# Altium schematic symbol library Connectors.SchLib: 17 symbols
Pins are listed as number, name and electrical type; pins without a type are passive.

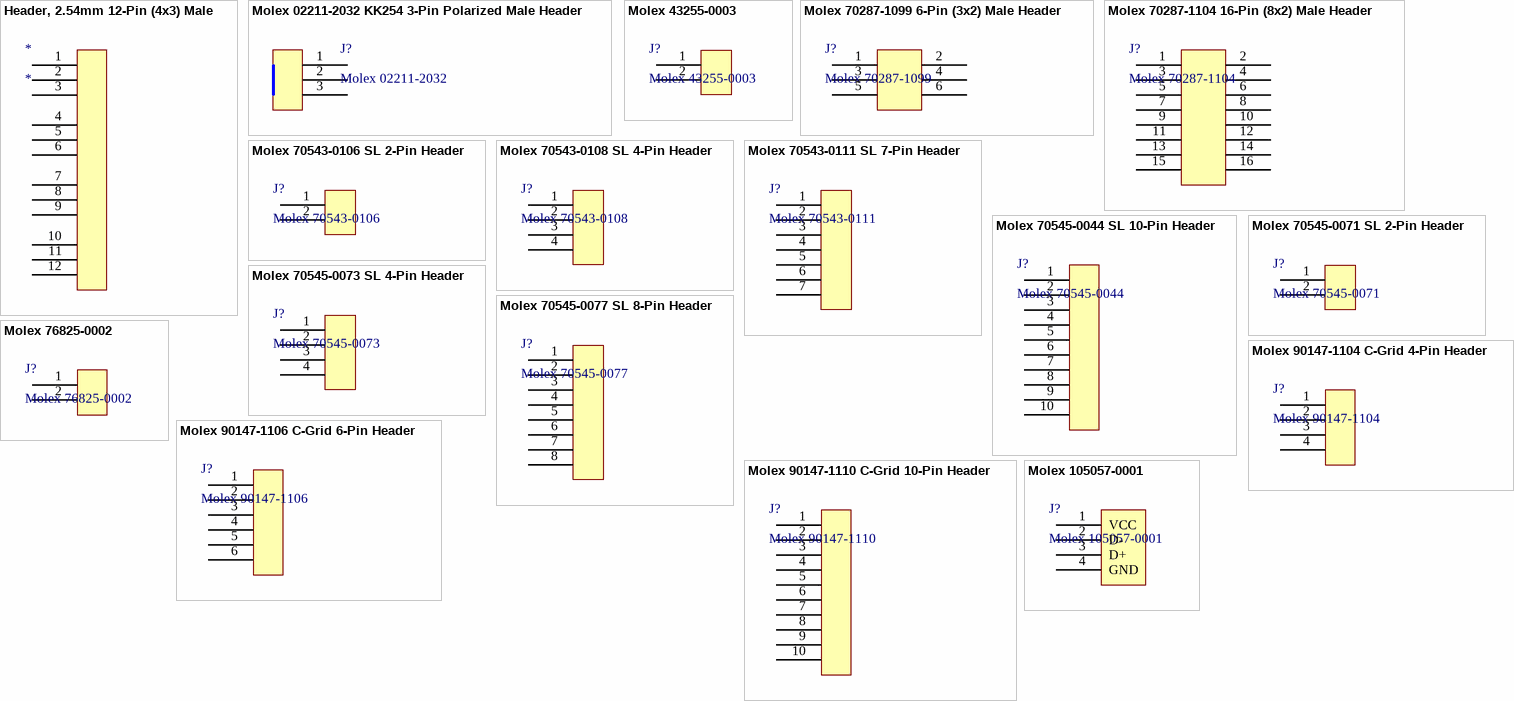
[diagram p0: symbols Header, 2.54mm 12-Pin (4x3) Male to Molex 105057-0001]

## Header, 2.54mm 12-Pin (4x3) Male
designator *
12 Positions Header, Unshrouded Connector 0.100" (2.54mm) Through Hole
footprint Header 12-Pin 2.54mm 4x3 (.025 SQ Post Terminal Strip Assembly, 3x4 Pins, Vertical, 2.54mm Pitch, Male)
pins: 1, 2, 3, 4, 5, 6, 7, 8, 9, 10, 11, 12

## Molex 02211-2032 KK254 3-Pin Polarized Male Header
designator J?, comment Molex 02211-2032
KK® 254 Solid Header, Vertical, with Friction Lock, 3 Circuits, Gold (Au) Plating; Contact Resistance: 10mR; Number of Positions: 3; Current Rating: 4A; Voltage Rating: 250V; Gender: Male; Insulation Resistance: 50GR; Pitch: 2.54mm; Approvals: UL; Glow Wire Compliant: Non-compliant; Supplier 1: Digi-Key; Manufacturer: Molex; Manufacturer Part Number: 22-11-2032; Stock 1: 54741; Pricing 1: 1 = 0.56000, 10 = 0.52700, 100 = 0.40370, 500 = 0.35100, 1000 = 0.28958, 5000 = 0.25448, 10000 = 0.23693 (USD); RoHS 1: Yes; Mount: Through Hole; Contact Plating: Gold; Contact Material: Brass; Color: White; Housing Color: Black; Housing Material: Nylon; Min Operating Temperature: 0°C; Max Operating Temperature: 75°C; Number of Rows: 1; Packaging: Bulk; Termination: Through Hole; Number of Contacts: 3; Orientation: Straight; Package Quantity: 2000; Max Current Rating: 4A; Number of Circuits: 3; Voltage Rating (DC): 250V; Length: 95mm; Height: 14.68mm; Depth: 9.02mm; Radiation Hardening: No; REACH SVHC: Unknown; Halogen Free: Low Halogen; Lead Free: Lead Free; Flammability Rating: UL94 V-0; ComponentLink1URL: https://datasheet.ciiva.com/5159/0022112032-pcb-headers-158580-5159152.pdf?src-supplier=Mouser; ComponentLink1Description: Datasheet 1 (Mouser); ComponentLink2URL: https://datasheet.ciiva.com/30220/211850022112032-pcb-headers-30220272.pdf?src-supplier=Onlinecomponents.com; ComponentLink2Description: Datasheet 2 (Onlinecomponents.com); ComponentLink3URL: https://datasheet.ciiva.com/16656/0022112032-pcb-headers-16656147.pdf?src-supplier=Avnet+Europe; ComponentLink3Description: Datasheet 3 (Avnet Europe); ComponentLink4URL: https://datasheet.ciiva.com/19462/1966000-19462324.pdf?src-supplier=Jameco; ComponentLink4Description: Datasheet 4 (Jameco); ComponentLink5URL: https://datasheet.ciiva.com/19462/233592-19462460.pdf?src-supplier=Jameco; ComponentLink5Description: Datasheet 5 (Jameco); ComponentLink6URL: https://datasheet.ciiva.com/11746/0900766b80d8f3a3-11746606.pdf?src-supplier=RSComponents; ComponentLink6Description: Datasheet 6 (RSComponents); ComponentLink7URL: https://datasheet.ciiva.com/10090/0022112032-pcb-headers-10090022.pdf?src-supplier=Avnet; ComponentLink7Description: Datasheet 7 (Avnet); ComponentLink8URL: https://datasheet.ciiva.com/28632/1928036-28632682.pdf?src-supplier=Element14; ComponentLink8Description: Datasheet 8 (Element14); Supplier Part Number 1: WM2701-ND
footprint Molex 02211-2032 (KK254 3-Pin Header with Friction Lock)
pins: 1, 2, 3

## Molex 43255-0003
designator J?
Pin & Socket Connectors 0.084 MLX Hdr 2CKT WITH PEG; Current Rating: 20A; Voltage Rating: 600V; Number of Positions: 2; Pitch: 6.35mm; Glow Wire Compliant: Non-compliant; Supplier 1: Digi-Key; Manufacturer: Molex; Manufacturer Part Number: 43255-0003; Stock 1: 7344; Pricing 1: 1 = 0.46000, 10 = 0.43200, 100 = 0.33140, 500 = 0.28820, 1836 = 0.23056, 5508 = 0.20895, 11016 = 0.19454 (USD); RoHS 1: Yes; Mount: Through Hole; Contact Material: Bronze; Contact Plating: Tin; Housing Material: Polyester; Min Operating Temperature: -55°C; Max Operating Temperature: 105°C; Package Quantity: 1836; Number of Rows: 1; Contact Gender: Male; Packaging: Tray; Termination: Through Hole; Number of Contacts: 2; Orientation: Straight; Number of Circuits: 2; REACH SVHC: No SVHC; Flammability Rating: UL94 V-0; ComponentLink1URL: https://datasheet.ciiva.com/30153/7750432550003-pcb-headers-30153428.pdf?src-supplier=Onlinecomponents.com; ComponentLink1Description: Datasheet 1 (Onlinecomponents.com); ComponentLink2URL: https://datasheet.ciiva.com/12919/0432550003-pcb-headers-168374-12919417.pdf?src-supplier=Mouser; ComponentLink2Description: Datasheet 2 (Mouser); Supplier Part Number 1: WM23264-ND
footprint Molex 43255-0003
pins: 1, 2

## Molex 70287-1099 6-Pin (3x2) Male Header
designator J?, comment Molex 70287-1099
CONN HEADER BKWY DL GOLD 6POS; Manufacturer Part Number: 0702871099; Number of Positions: 6; Max Voltage Rating (DC): 250V; Connector Type: Male Pin; Pitch: 2.54mm; Row Spacing: 0.1inch; Supplier 1: Digi-Key; Manufacturer: Molex; Stock 1: 0; RoHS 1: Yes; Mount: Through Hole; Contact Plating: Gold; Contact Material: Brass; Housing Material: Thermoplastic; Color: Black; Housing Color: Black; Min Operating Temperature: -40°C; Max Operating Temperature: 120°C; Orientation: Straight; Packaging: Bulk; Number of Rows: 2; Termination: Solder; Number of Contacts: 6; Length: 7.62mm; Contact Mating Length: 0.24inch; Depth: 5.08mm; Radiation Hardening: No; ComponentLink1URL: https://datasheet.ciiva.com/9470/0702871099-pcb-headers-9470351.pdf?src-supplier=Avnet; ComponentLink1Description: Datasheet 1 (Avnet); ComponentLink2URL: https://datasheet.ciiva.com/2961/702871098-sd-2961401.pdf?src-supplier=Digi-Key; ComponentLink2Description: Datasheet 2 (Digi-Key); Supplier Part Number 1: 0702871099-ND
footprint Molex 70287-1099 (C-Grid 2.54mm 6-Pin (3x2) Male Header)
pins: 1, 2, 3, 4, 5, 6

## Molex 70287-1104 16-Pin (8x2) Male Header
designator J?, comment Molex 70287-1104
CONN HEADER BKWY DL GOLD 16POS; Manufacturer Part Number: 0702871104; Number of Positions: 16; Max Voltage Rating (DC): 250V; Connector Type: Male Pin; Pitch: 2.54mm; Row Spacing: 0.1inch; Supplier 1: Digi-Key; Manufacturer: Molex; Stock 1: 0; Pricing 1: 2500 = 0.79674 (USD); RoHS 1: Yes; Mount: Through Hole; Contact Plating: Gold; Contact Material: Brass; Housing Material: Thermoplastic; Color: Black; Housing Color: Black; Min Operating Temperature: -40°C; Max Operating Temperature: 120°C; Number of Rows: 2; Packaging: Bulk; Termination: Solder; Orientation: Straight; Number of Contacts: 16; Length: 20.32mm; Contact Mating Length: 0.24inch; Depth: 5.08mm; ComponentLink1URL: https://datasheet.ciiva.com/10080/0702871104-pcb-headers-10080132.pdf?src-supplier=Avnet; ComponentLink1Description: Datasheet 1 (Avnet); ComponentLink2URL: https://datasheet.ciiva.com/2961/702871098-sd-2961617.pdf?src-supplier=Digi-Key; ComponentLink2Description: Datasheet 2 (Digi-Key); Supplier Part Number 1: 0702871104-ND
footprint Molex 70287-1104 (C-Grid 2.54mm 16-Pin (8x2) Male Header)
pins: 1, 2, 3, 4, 5, 6, 7, 8, 9, 10, 11, 12, 13, 14, 15, 16

## Molex 70543-0106 SL 2-Pin Header
designator J?, comment Molex 70543-0106
CONN HEADER VERT 2POS 2.54MM, NO PEG; Number of Contacts: 2; Contact Resistance: 30mR; Current Rating: 3A; Voltage Rating: 250V; Gender: Male; Glow Wire Compliant: Non-compliant; ComponentLink1Description: Drawing; ComponentLink1URL: https://www.molex.com/pdm_docs/sd/705430106_sd.pdf; Supplier 1: Digi-Key; Manufacturer: Molex; Manufacturer Part Number: 70543-0106; Stock 1: 3689; Pricing 1: 1 = 1.13000, 10 = 0.99600, 100 = 0.85950, 500 = 0.70326, 3456 = 0.56652, 6912 = 0.54698, 10368 = 0.51963 (USD); RoHS 1: Yes; Mount: Through Hole; Contact Plating: Gold; Contact Material: Bronze; Color: Black; Housing Material: Thermoplastic; Material: Brass; Min Operating Temperature: -40°C; Max Operating Temperature: 105°C; Number of Rows: 1; Termination: Through Hole; Packaging: Rail/Tube; Number of Positions: 2; Orientation: Vertical; Package Quantity: 3456; Number of Circuits: 2; Voltage Rating (DC): 250V; Pitch: 2.54mm; Radiation Hardening: No; REACH SVHC: Unknown; ELV: Compliant; Flammability Rating: UL94 V-0; Supplier Part Number 1: WM4122-ND
footprint Molex 70543-0106 (2-Pin SL Vertical Header with Latch and No Pegs)
pins: 1, 2

## Molex 70543-0108 SL 4-Pin Header
designator J?, comment Molex 70543-0108
CONN HEADER VERT 4POS 2.54MM, NO PEG; Contact Resistance: 30mR; Number of Positions: 4; Voltage Rating: 250V; Current Rating: 3A; Gender: Male; Glow Wire Compliant: Non-compliant; ComponentLink1Description: Drawing; ComponentLink1URL: https://www.molex.com/pdm_docs/sd/705430108_sd.pdf; Supplier 1: Digi-Key; Manufacturer: Molex; Manufacturer Part Number: 70543-0108; Stock 1: 5247; Pricing 1: 1 = 1.40000, 10 = 1.23100, 100 = 1.06220, 500 = 0.86904, 2016 = 0.72420, 6048 = 0.67592, 10080 = 0.64212 (USD); RoHS 1: Yes; Mount: Through Hole; Contact Plating: Gold; Contact Material: Bronze; Housing Material: Thermoplastic; Color: Black; Material: Brass; Min Operating Temperature: -40°C; Max Operating Temperature: 105°C; Number of Rows: 1; Termination: Through Hole; Packaging: Rail/Tube; Number of Contacts: 4; Orientation: Vertical; Package Quantity: 2016; Contact Gender: Male; Number of Circuits: 4; Voltage Rating (DC): 250V; Pitch: 2.54mm; Radiation Hardening: No; REACH SVHC: Unknown; ELV: Compliant; Flammability Rating: UL94 V-0; Supplier Part Number 1: WM4124-ND
footprint Molex 70543-0108 (4-Pin SL Vertical Header with Latch and No Pegs)
pins: 1, 2, 3, 4

## Molex 70543-0111 SL 7-Pin Header
designator J?, comment Molex 70543-0111
CONN HEADER VERT 7POS 2.54MM, NO PEG; Contact Resistance: 30mR; Number of Positions: 7; Gender: Male; Current Rating: 3A; Voltage Rating: 250V; Glow Wire Compliant: Non-compliant; ComponentLink1Description: Drawing; ComponentLink1URL: https://www.molex.com/pdm_docs/sd/705430111_sd.pdf; Supplier 1: Digi-Key; Manufacturer: Molex; Manufacturer Part Number: 70543-0111; Stock 1: 379; Pricing 1: 1 = 2.03000, 10 = 1.84300, 100 = 1.57980, 500 = 1.31652, 1248 = 1.12845, 6240 = 1.00056 (USD); RoHS 1: Yes; Mount: Through Hole; Contact Plating: Gold; Contact Material: Bronze; Color: Black; Housing Material: Thermoplastic; Material: Brass; Min Operating Temperature: -40°C; Max Operating Temperature: 105°C; Number of Rows: 1; Packaging: Rail/Tube; Termination: Through Hole; Orientation: Vertical; Package Quantity: 1248; Number of Contacts: 7; Number of Circuits: 7; Voltage Rating (DC): 250V; Pitch: 2.54mm; REACH SVHC: Unknown; ELV: Compliant; Flammability Rating: UL94 V-0; Supplier Part Number 1: WM4127-ND
footprint Molex 70543-0111 (7-Pin SL Vertical Header with Latch and No Pegs)
pins: 1, 2, 3, 4, 5, 6, 7

## Molex 70545-0044 SL 10-Pin Header
designator J?, comment Molex 70545-0044
CONN HEADER VERT 10POS 2.54MM, PEG; Description: Conn Shrouded Header HDR 10 POS 2.54mm Solder ST Thru-Hole Tube; Contact Resistance: 30mR; Number of Positions: 10; Current Rating: 3A; Voltage Rating: 250V; Insulation Resistance: 1GR; Gender: Female; Glow Wire Compliant: Non-compliant; Supplier 1: Digi-Key; Manufacturer: Molex; Manufacturer Part Number: 70545-0044; Stock 1: 559; Pricing 1: 1 = 2.16000, 10 = 1.96000, 100 = 1.68000, 500 = 1.40000, 1000 = 1.20000, 5000 = 1.06400 (USD); RoHS 1: Yes; Mount: Through Hole; Contact Material: Bronze; Contact Plating: Gold; Housing Material: Thermoplastic; Color: Black; Material: Brass; Min Operating Temperature: -40°C; Max Operating Temperature: 105°C; Number of Rows: 1; Packaging: Rail/Tube; Termination: Through Hole; Number of Contacts: 10; Orientation: Vertical; Package Quantity: 768; Contact Gender: Male; Number of Circuits: 10; Voltage Rating (DC): 250V; Pitch: 2.54mm; REACH SVHC: Unknown; ELV: Compliant; Flammability Rating: UL94 V-0; ComponentLink1URL: https://datasheet.ciiva.com/5159/0705450044-pcb-headers-172681-5159521.pdf?src-supplier=Mouser; ComponentLink1Description: Datasheet 1 (Mouser); ComponentLink2URL: https://datasheet.ciiva.com/30114/22600705450044-pcb-headers-30114382.pdf?src-supplier=Onlinecomponents.com; ComponentLink2Description: Datasheet 2 (Onlinecomponents.com); Supplier Part Number 1: WM4150-ND
footprint Molex 70545-0044 (10-Pin SL Vertical Header with Latch and Pegs)
pins: 1, 2, 3, 4, 5, 6, 7, 8, 9, 10

## Molex 70545-0071 SL 2-Pin Header
designator J?, comment Molex 70545-0071
CONN HEADER VERT 4POS 2.54MM, PEG; Contact Resistance: 30mR; Number of Positions: 2; Current Rating: 3A; Voltage Rating: 250V; Mating Cycles: 50; Gender: Female; Insulation Resistance: 1GR; Glow Wire Compliant: Non-compliant; Supplier 1: Digi-Key; Manufacturer: Molex; Manufacturer Part Number: 70545-0071; Stock 1: 921; Pricing 1: 1 = 1.09000, 10 = 0.95500, 100 = 0.82410, 500 = 0.67428, 2064 = 0.56190, 6192 = 0.52444, 10320 = 0.49822 (USD); RoHS 1: Yes; Mount: Through Hole; Contact Plating: Gold; Contact Material: Bronze; Color: Black; Housing Material: Polycyclohexylenedimethylene; Material: Brass; Min Operating Temperature: -40°C; Max Operating Temperature: 105°C; Number of Rows: 1; Package Quantity: 2064; Packaging: Rail/Tube; Termination: Through Hole; Orientation: Vertical; Number of Contacts: 2; Number of Circuits: 2; Voltage Rating (DC): 250V; Pitch: 2.54mm; Radiation Hardening: No; REACH SVHC: Unknown; ELV: Compliant; Flammability Rating: UL94 V-0; ComponentLink1URL: https://datasheet.ciiva.com/10089/0705450071-pcb-headers-10089489.pdf?src-supplier=Avnet; ComponentLink1Description: Datasheet 1 (Avnet); ComponentLink2URL: https://datasheet.ciiva.com/5158/0705450071-pcb-headers-172605-5158259.pdf?src-supplier=Mouser; ComponentLink2Description: Datasheet 2 (Mouser); ComponentLink3URL: https://datasheet.ciiva.com/39123/0705450071-pcb-headers-39123750.pdf?src-supplier=Onlinecomponents.com; ComponentLink3Description: Datasheet 3 (Onlinecomponents.com); Supplier Part Number 1: WM14781-ND
footprint Molex 70545-0071 (2-Pin SL Vertical Header with Latch and Pegs)
pins: 1, 2

## Molex 70545-0073 SL 4-Pin Header
designator J?, comment Molex 70545-0073
CONN HEADER VERT 4POS 2.54MM, PEG; Contact Resistance: 30mR; Number of Positions: 4; Current Rating: 3A; Voltage Rating: 250V; Insulation Resistance: 1GR; Glow Wire Compliant: Non-compliant; ComponentLink1Description: Drawing; ComponentLink1URL: https://www.molex.com/pdm_docs/sd/705450073_sd.pdf; Supplier 1: Digikey; Manufacturer: Molex; Manufacturer Part Number: 70545-0073; Stock 1: 705; Pricing 1: 1 = 1.55000, 10 = 1.41000, 100 = 1.20860, 500 = 1.00712, 1440 = 0.86325, 5760 = 0.76541, 10080 = 0.74815 (USD); RoHS 1: Yes; Mount: Through Hole; Contact Plating: Gold; Contact Material: Bronze; Housing Material: Polycyclohexylenedimethylene; Color: Black; Material: Brass; Min Operating Temperature: -40°C; Max Operating Temperature: 105°C; Number of Rows: 1; Packaging: Rail/Tube; Package Quantity: 1440; Termination: Through Hole; Orientation: Vertical; Number of Contacts: 4; Voltage Rating (DC): 250V; Number of Circuits: 4; Pitch: 2.54mm; Flammability Rating: UL94 V-0; ELV: Compliant; Supplier Part Number 1: WM12791-ND
footprint Molex 70545-0073 (4-Pin SL Vertical Header with Latch and Pegs)
pins: 1, 2, 3, 4

## Molex 70545-0077 SL 8-Pin Header
designator J?, comment Molex 70545-0077
CONN HEADER VERT 8POS 2.54MM, PEG; Manufacturer Part Number: 705450077; Number of Circuits: 8; Supplier 1: Digikey; Manufacturer: Molex; Stock 1: 617; Pricing 1: 1 = 2.00000, 10 = 1.81300, 100 = 1.55360, 912 = 1.25766, 1824 = 1.07271, 5472 = 0.98393, 10032 = 0.96174 (USD); RoHS 1: No; Orientation: Vertical; Supplier Part Number 1: WM14785-ND
footprint Molex 70545-0077 (8-Pin SL Vertical Header with Latch and Pegs)
pins: 1, 2, 3, 4, 5, 6, 7, 8

## Molex 76825-0002
designator J?
CONN HEADER R/A 2POS; Number of Circuits: 2; Gender: Male; Pitch: 5.7mm; Supplier 1: Digi-Key; Manufacturer: Molex; Manufacturer Part Number: 76825-0002; Stock 1: 2541; Pricing 1: 1 = 1.13000, 10 = 0.99300, 25 = 0.93440, 50 = 0.89560, 100 = 0.85670, 250 = 0.77880, 500 = 0.70092, 2016 = 0.58410, 4032 = 0.56463 (USD); RoHS: Yes; Color: Black; Contact Plating: Tin; Contact Material: Copper; Termination: Through Hole; Number of Rows: 2; Orientation: Right Angle; Number of Contacts: 2; REACH SVHC: Unknown; ComponentLink1URL: http://www.farnell.com/datasheets/2216551.pdf?src-supplier=Farnell; ComponentLink1Description: Datasheet 1 (Farnell); ComponentLink2URL: http://www.alliedelec.com/images/products/datasheets/bm/BrandonData/70717238.pdf?src-supplier=Allied+Electronics; ComponentLink2Description: Datasheet 2 (Allied Electronics); ComponentLink3URL: https://www.molex.com/pdm_docs/sd/768250002_sd.pdf?src-supplier=Digi-Key; ComponentLink3Description: Datasheet 3 (Digi-Key); ComponentLink4URL: http://www.farnell.com/datasheets/2001779.pdf?src-supplier=Element14; ComponentLink4Description: Datasheet 4 (Element14); ComponentLink5URL: http://www.farnell.com/datasheets/1968956.pdf?src-supplier=Element14; ComponentLink5Description: Datasheet 5 (Element14); Supplier Part Number 1: WM11969-ND
footprint Molex 76825-0002
pins: 1 (power), 2 (power)

## Molex 90147-1104 C-Grid 4-Pin Header
designator J?, comment Molex 90147-1104
C-Grid® PC Board Connector, Single Row, Vertical, 4 Circuits, Tin (Sn) Plating; Number of Positions: 4; Current Rating: 3A; Voltage Rating: 350V; Gender: Female; Pitch: 2.54mm; Glow Wire Compliant: Non-compliant; Supplier 1: Digi-Key; Manufacturer: Molex; Manufacturer Part Number: 90147-1104; Stock 1: 11420; Pricing 1: 1 = 1.24000, 10 = 1.08800, 100 = 0.93830, 500 = 0.76770, 4160 = 0.61843, 8320 = 0.56725, 12480 = 0.55445 (USD); RoHS 1: Yes; Contact Plating: Tin; Contact Material: Bronze; Housing Material: Polyester; Material: Bronze; Number of Rows: 1; Package Quantity: 4160; Packaging: Rail/Tube; Termination: Through Hole; Number of Contacts: 4; Orientation: Vertical; Number of Circuits: 4; Radiation Hardening: No; REACH SVHC: Unknown; Flammability Rating: UL94 V-0; ComponentLink1URL: https://datasheet.ciiva.com/13565/0901471104-pcb-receptacles-176839-13565807.pdf?src-supplier=Mouser; ComponentLink1Description: Datasheet 1 (Mouser); ComponentLink2URL: https://datasheet.ciiva.com/46431/1597377-46431813.pdf?src-supplier=Element14; ComponentLink2Description: Datasheet 2 (Element14); ComponentLink3URL: https://datasheet.ciiva.com/16733/0901471104-pcb-receptacles-16733373.pdf?src-supplier=Avnet+Europe; ComponentLink3Description: Datasheet 3 (Avnet Europe); ComponentLink4URL: https://datasheet.ciiva.com/10088/0901471104-pcb-receptacles-10088734.pdf?src-supplier=Avnet; ComponentLink4Description: Datasheet 4 (Avnet); ComponentLink5URL: https://datasheet.ciiva.com/16733/0901471104-pcb-receptacles-16733374.pdf?src-supplier=Avnet+Europe; ComponentLink5Description: Datasheet 5 (Avnet Europe); Supplier Part Number 1: WM14831-ND
footprint Molex 90147-1104 (C-Grid III 2.54mm 4-Pin PC Board Connector)
pins: 1, 2, 3, 4

## Molex 90147-1106 C-Grid 6-Pin Header
designator J?, comment Molex 90147-1106
C-Grid® PC Board Connector, Single Row, Vertical, 6 Circuits, Tin (Sn) Plating; Number of Contacts: 6; Gender: Receptacle; Current Rating: 3A; Voltage Rating: 350V; Pitch: 2.54mm; Glow Wire Compliant: Non-compliant; Supplier 1: Digi-Key; Manufacturer: Molex; Manufacturer Part Number: 90147-1106; Stock 1: 752; Pricing 1: 1 = 1.94000, 10 = 1.76400, 25 = 1.65600, 50 = 1.58400, 100 = 1.51200, 250 = 1.36800, 500 = 1.26000, 1000 = 1.08000, 2500 = 1.00800 (USD); RoHS 1: Yes; Mount: Through Hole; Contact Plating: Tin; Contact Material: Bronze; Housing Material: Polyester; Material: Bronze; Min Operating Temperature: -55°C; Max Operating Temperature: 125°C; Number of Rows: 1; Termination: Through Hole; Packaging: Rail/Tube; Number of Positions: 6; Orientation: Vertical; Contact Gender: Female; Number of Circuits: 6; Radiation Hardening: No; Flammability Rating: UL94 V-0; ComponentLink1URL: https://datasheet.ciiva.com/30085/0901471106-pcb-receptacles-30085169.pdf?src-supplier=Onlinecomponents.com; ComponentLink1Description: Datasheet 1 (Onlinecomponents.com); ComponentLink2URL: https://datasheet.ciiva.com/5155/0901471106-pcb-receptacles-176766-5155891.pdf?src-supplier=Mouser; ComponentLink2Description: Datasheet 2 (Mouser); ComponentLink3URL: https://datasheet.ciiva.com/10085/0901471106-pcb-receptacles-10085156.pdf?src-supplier=Avnet; ComponentLink3Description: Datasheet 3 (Avnet); Supplier Part Number 1: WM4223-ND
footprint Molex 90147-1106 (C-Grid III 2.54mm 6-Pin PC Board Connector)
pins: 1, 2, 3, 4, 5, 6

## Molex 90147-1110 C-Grid 10-Pin Header
designator J?, comment Molex 90147-1110
C-Grid® PC Board Connector, Single Row, Vertical, 10 Circuits, Tin (Sn) Plating; Number of Positions: 10; Current Rating: 3A; Voltage Rating: 350V; Pitch: 2.54mm; Glow Wire Compliant: Non-compliant; Supplier 1: Digikey; Manufacturer: Molex; Manufacturer Part Number: 90147-1110; Stock 1: 2940; Pricing 1: 1 = 2.53000, 10 = 2.29800, 25 = 2.15760, 50 = 2.06380, 100 = 1.97000, 250 = 1.78240, 500 = 1.64168, 1760 = 1.36024, 3520 = 1.31334 (USD); RoHS 1: Yes; Mount: Through Hole; Contact Plating: Tin; Contact Material: Bronze; Housing Material: Polyester; Material: Bronze; Min Operating Temperature: -55°C; Max Operating Temperature: 125°C; Number of Rows: 1; Packaging: Rail/Tube; Number of Contacts: 10; Termination: Solder; Orientation: Vertical; Package Quantity: 1760; Number of Circuits: 10; Radiation Hardening: No; Flammability Rating: UL94 V-0; ComponentLink1URL: https://datasheet.ciiva.com/16732/0901471110-pcb-receptacles-16732368.pdf?src-supplier=Avnet+Europe; ComponentLink1Description: Datasheet 1 (Avnet Europe); ComponentLink2URL: https://datasheet.ciiva.com/30193/276430901471110-pcb-receptacles-30193986.pdf?src-supplier=Onlinecomponents.com; ComponentLink2Description: Datasheet 3 (Mouser); ComponentLink3URL: https://datasheet.ciiva.com/5158/0901471110-pcb-receptacles-176767-5158986.pdf?src-supplier=Mouser; ComponentLink3Description: Datasheet 4 (Avnet); ComponentLink4URL: https://datasheet.ciiva.com/10082/0901471110-pcb-receptacles-10082332.pdf?src-supplier=Avnet; ComponentLink4Description: Datasheet 2 (Onlinecomponents.com); Supplier Part Number 1: WM3630-ND
footprint Molex 90147-1110 (C-Grid III 2.54mm 10-Pin PC Board Connector)
pins: 1, 2, 3, 4, 5, 6, 7, 8, 9, 10

## Molex 105057-0001
designator J?
CONN RCPT USB2.0 TYPEA 4POS VERT; Gender: Receptacle; Connector Type: USB; Number of Ports: 1; Number of Contacts: 4; Current Rating: 1.5A; Voltage Rating: 30V; Pitch: 2mm; Supplier 1: Digi-Key; Manufacturer: Molex; Manufacturer Part Number: 105057-0001; Stock 1: 43852; Pricing 1: 1 = 1.29000, 10 = 1.13600, 25 = 1.06880, 50 = 1.02440, 100 = 0.97990, 250 = 0.89080, 500 = 0.80172, 2016 = 0.66810, 4032 = 0.64583 (USD); RoHS 1: Yes; Mount: Through Hole; Contact Plating: Gold; Contact Material: Copper Alloy; Number of Terminals: 4; Housing Material: Thermoplastic; Color: Black; Min Operating Temperature: -40°C; Max Operating Temperature: 85°C; Packaging: Tray; Package Quantity: 2016; Termination: Solder; Orientation: Vertical; Features: Shielded; Number of Positions: 4; Number of Circuits: 4; USB Standard: USB 2.0; Length: 14.68mm; Depth: 14.3mm; Radiation Hardening: No; REACH SVHC: Unknown; ComponentLink1URL: https://datasheet.ciiva.com/3094/1050570001-io-connectors-3094352.pdf?src-supplier=Avnet; ComponentLink1Description: https://datasheet.ciiva.com/3094/1050570001-io-connectors-3094352.pdf?src-supplier=Avnet; ComponentLink2URL: https://datasheet.ciiva.com/1098/1598467-1098017.pdf?src-supplier=Element14; ComponentLink2Description: https://datasheet.ciiva.com/1098/1598467-1098017.pdf?src-supplier=Element14; ComponentLink3URL: https://datasheet.ciiva.com/26290/1050570001-io-connectors-26290434.pdf?src-supplier=Onlinecomponents.com; ComponentLink3Description: https://datasheet.ciiva.com/26290/1050570001-io-connectors-26290434.pdf?src-supplier=Onlinecomponents.com; ComponentLink4URL: https://datasheet.ciiva.com/16142/539171050570001-io-nectors-16142942.pdf?src-supplier=Onlinecomponents.com; ComponentLink4Description: https://datasheet.ciiva.com/16142/539171050570001-io-nectors-16142942.pdf?src-supplier=Onlinecomponents.com; ComponentLink5URL: https://datasheet.ciiva.com/15181/getdatasheetpartid-152694-15181206.pdf?src-supplier=Verical; ComponentLink5Description: https://datasheet.ciiva.com/15181/getdatasheetpartid-152694-15181206.pdf?src-supplier=Verical; Supplier Part Number 1: WM8672-ND
footprint Molex 105057-0001 (CONN RCPT USB2.0 TYPEA 4POS VERT)
pins: 1 VCC (power), 2 D-, 3 D+, 4 GND (power), 5 GND (power) hidden, 6 GND (power) hidden, 7 GND (power) hidden